# Altium schematic symbol library Misc.SchLib: 3 symbols
Pins are listed as number, name and electrical type; pins without a type are passive.

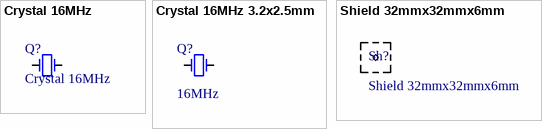
[diagram p0: symbols Crystal 16MHz to Shield 32mmx32mmx6mm]

## Crystal 16MHz
designator Q?
Manufacturer Part Num: MCRSD16000F183000RR
footprint HC49S-SMD
pins: 1 OSC1, 2 OSC2

## Crystal 16MHz 3.2x2.5mm
designator Q?  value 16MHz  (hidden comment: Crystal 16MHz 3.2x2.5mm)
Manufacturer Part Num: E3SB16.0000F09G11AE
footprint Quartz 3.2x2.5mm
pins: 1 OSC1, 2 OSC2

## Shield 32mmx32mmx6mm
designator Sh?
Manufacturer Part Num: BMI-S-204-C
footprint Shield 32mmx32mmx6mm
pins: 1